# Altium footprint library SOP65P400X130-8L40N.PcbLib: 1 footprints
Each footprint in its own frame and in the unit in brackets; x right, y up, seen from the top. Pads: shape width x height; smd on the part's side, far side on the other; paste and mask are expansions set on the pad; w line width, h text height; cw(c..) or ccw(c..) is an arc to the next point about the centre after c.
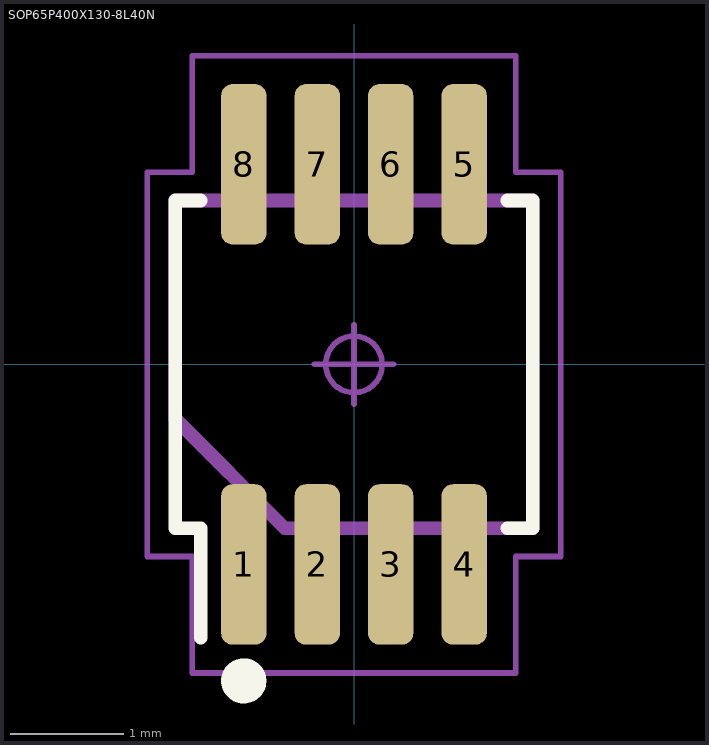
[diagram p0: the footprint, top view; thin cyan lines are the x and y axes]

## SOP65P400X130-8L40N [mm] "Small Outline Pkg (SOP), 0.65 mm pitch; 8 pin, 2.95 mm L X 2.80 mm W X 1.30 mm H body"
height 1.3
pads (8):
  rrect50% 0.4x1.42 smd: 1(-0.975,-1.77) 2(-0.325,-1.77) 3(0.325,-1.77) 4(0.975,-1.77) 5(0.975,1.77) 6(0.325,1.77) 7(-0.325,1.77) 8(-0.975,1.77)
Top Overlay:
  circle w0.2: c-0.975,-2.8 r0.1
  lines w0.12: -1.355,-2.42 -1.355,-1.45 -1.58,-1.45 -1.58,1.45 -1.355,1.45 ; 1.355,-1.45 1.58,-1.45 1.58,1.45 1.355,1.45
Mechanical 11:
  lines w0.12: -1.58,-0.483 -1.58,1.45 1.58,1.45 1.58,-1.45 -0.613,-1.45 -1.58,-0.483
Mechanical 15:
  circle w0.05: c0,0 r0.25
  lines w0.05: -0.35,0 0.35,0 ; 0,-0.35 0,0.35 ; -1.83,-1.7 -1.83,1.7 -1.43,1.7 -1.43,2.73 1.43,2.73 1.43,1.7 1.83,1.7 1.83,-1.7 1.43,-1.7 1.43,-2.73 -1.43,-2.73 -1.43,-1.7 -1.83,-1.7
3D body: height 1.3, standoff 0, extent -1.575,-2.125 1.575,2.125